# Altium integrated library ON Semi Schottky Diodes & Schottky Rectifiers.IntLib: 755 symbols (part 15 of 17)
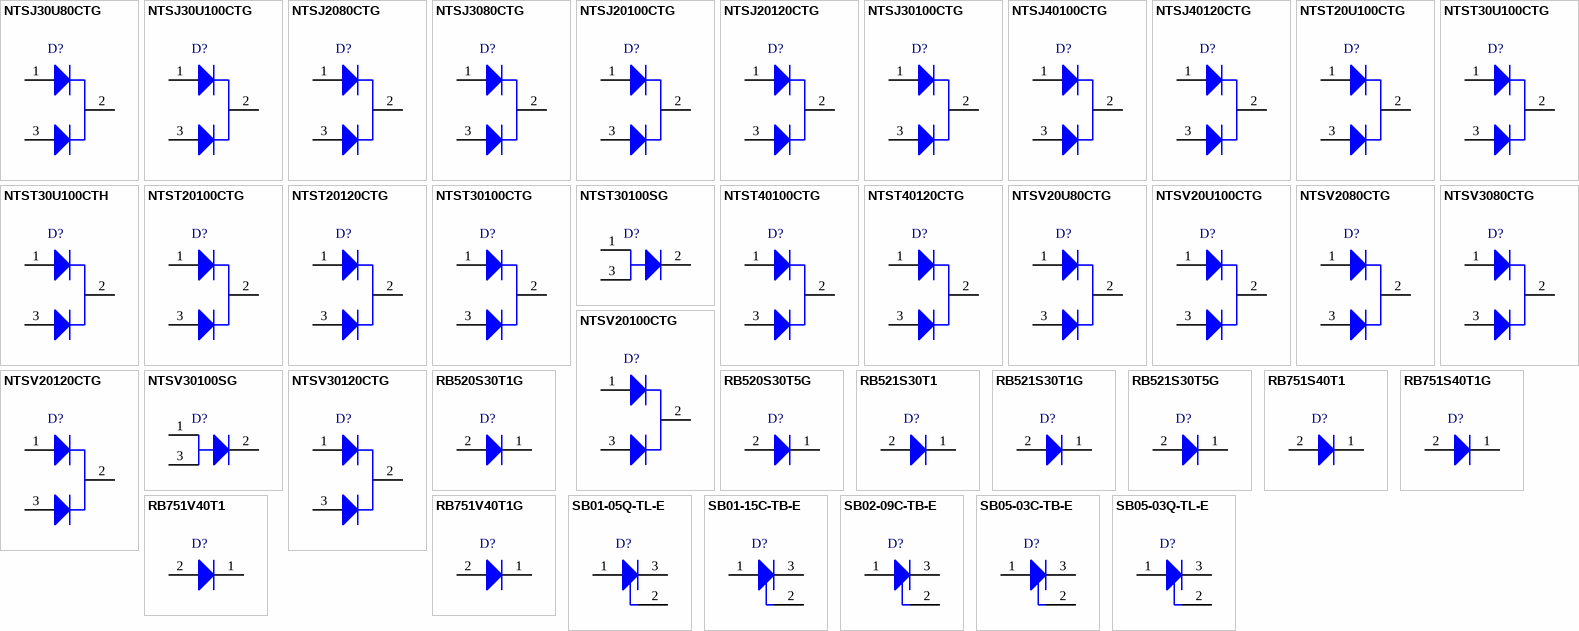
[diagram p33: symbols NTSJ30U80CTG to SB05-03Q-TL-E]

## RB520S30T1G
designator D?
Schottky Barrier Diode, 2-Pin SOD-523, Pb-Free, Tape and Reel; Manufacturer: On Semiconductor; PartNumber: RB520S30T1G; Configuration: Single; DatasheetVersion: Rev. 10; PackageVersion: Rev. E, 09/2010; PackageReference: SOD-523-2-502-01; PackageDescription: 2-Pin SOD, Body 1.2 x 0.8 mm; Supplier 1: Digi-Key; Supplier Part Number 1: RB520S30T1GOSTR-ND; Supplier 2: Digi-Key; Supplier Part Number 2: RB520S30T1GOSCT-ND; Supplier 3: Digi-Key; Supplier Part Number 3: RB520S30T1GOSDKR-ND; Supplier 4: Farnell; Supplier Part Number 4: 2317425; Supplier 5: Farnell; Supplier Part Number 5: 2369361; Supplier 6: Newark; Supplier Part Number 6: 42K2554; Supplier 7: Newark; Supplier Part Number 7: 10N9730; Supplier 8: Mouser; Supplier Part Number 8: 863-RB520S30T1G; Packing: Tape and Reel; RoHS: TRUE; Mounting Technology: Surface Mount; ComponentLink1Description: Manufacturer URL; ComponentLink1URL: http://www.onsemi.com/; ComponentLink2Description: Datasheet; ComponentLink2URL: http://www.onsemi.cn/pub_link/Collateral/RB520S30T1-D.PDF; ComponentLink3Description: Package Specification; ComponentLink3URL: http://www.onsemi.com/pub_link/Collateral/502-01.PDF
footprint ONSC-SOD-523-2-502-01_V (SOD, 2-Leads, Body 1.2x0.8mm)
pins: 1 K, 2 A

## RB520S30T5G
designator D?
Schottky Barrier Diode, 2-Pin SOD-523, Pb-Free, Tape and Reel; Manufacturer: On Semiconductor; PartNumber: RB520S30T5G; Configuration: Single; DatasheetVersion: Rev. 10; PackageVersion: Rev. E, 09/2010; PackageReference: SOD-523-2-502-01; PackageDescription: 2-Pin SOD, Body 1.2 x 0.8 mm; Supplier 1: Digi-Key; Supplier Part Number 1: RB520S30T5G-ND; Supplier 2: Newark; Supplier Part Number 2: 65T1558; Supplier 3: Mouser; Supplier Part Number 3: 863-RB520S30T5G; Packing: Tape and Reel; RoHS: TRUE; Mounting Technology: Surface Mount; ComponentLink1Description: Manufacturer URL; ComponentLink1URL: http://www.onsemi.com/; ComponentLink2Description: Datasheet; ComponentLink2URL: http://www.onsemi.cn/pub_link/Collateral/RB520S30T1-D.PDF; ComponentLink3Description: Package Specification; ComponentLink3URL: http://www.onsemi.com/pub_link/Collateral/502-01.PDF
footprint ONSC-SOD-523-2-502-01_V (SOD, 2-Leads, Body 1.2x0.8mm)
pins: 1 K, 2 A

## RB521S30T1
designator D?
Schottky Barrier Diode, 2-Pin SOD-523, Tape and Reel; Manufacturer: On Semiconductor; PartNumber: RB521S30T1; Configuration: Single; IFSM Max (A): 1; DatasheetVersion: Rev. 8; PackageVersion: Rev. E, 09/2010; PackageReference: SOD-523-2-502-01; PackageDescription: 2-Pin SOD, Body 1.2 x 0.8 mm; Supplier 1: Digi-Key; Supplier Part Number 1: RB521S30T1OSTR-ND; Supplier 2: Digi-Key; Supplier Part Number 2: RB521S30T1OSCT-ND; Packing: Tape and Reel; RoHS: FALSE; Mounting Technology: Surface Mount; ComponentLink1Description: Manufacturer URL; ComponentLink1URL: http://www.onsemi.com/; ComponentLink2Description: Datasheet; ComponentLink2URL: http://www.onsemi.cn/pub_link/Collateral/RB521S30T1-D.PDF; ComponentLink3Description: Package Specification; ComponentLink3URL: http://www.onsemi.com/pub_link/Collateral/502-01.PDF
footprint ONSC-SOD-523-2-502-01_V (SOD, 2-Leads, Body 1.2x0.8mm)
pins: 1 K, 2 A

## RB521S30T1G
designator D?
Schottky Barrier Diode, 2-Pin SOD-523, Pb-Free, Tape and Reel; Manufacturer: On Semiconductor; PartNumber: RB521S30T1G; Configuration: Single; IFSM Max (A): 1; DatasheetVersion: Rev. 8; PackageVersion: Rev. E, 09/2010; PackageReference: SOD-523-2-502-01; PackageDescription: 2-Pin SOD, Body 1.2 x 0.8 mm; Supplier 1: Digi-Key; Supplier Part Number 1: RB521S30T1GOSTR-ND; Supplier 2: Digi-Key; Supplier Part Number 2: RB521S30T1GOSCT-ND; Supplier 3: Digi-Key; Supplier Part Number 3: RB521S30T1GOSDKR-ND; Supplier 4: Farnell; Supplier Part Number 4: 2317433; Supplier 5: Farnell; Supplier Part Number 5: 1885825; Supplier 6: Newark; Supplier Part Number 6: 42K2555; Supplier 7: Newark; Supplier Part Number 7: 10N9731; Supplier 8: Mouser; Supplier Part Number 8: 863-RB521S30T1G; Packing: Tape and Reel; RoHS: TRUE; Mounting Technology: Surface Mount; ComponentLink1Description: Manufacturer URL; ComponentLink1URL: http://www.onsemi.com/; ComponentLink2Description: Datasheet; ComponentLink2URL: http://www.onsemi.cn/pub_link/Collateral/RB521S30T1-D.PDF; ComponentLink3Description: Package Specification; ComponentLink3URL: http://www.onsemi.com/pub_link/Collateral/502-01.PDF
footprint ONSC-SOD-523-2-502-01_V (SOD, 2-Leads, Body 1.2x0.8mm)
pins: 1 K, 2 A

## RB521S30T5G
designator D?
Schottky Barrier Diode, 2-Pin SOD-523, Pb-Free, Tape and Reel; Manufacturer: On Semiconductor; PartNumber: RB521S30T5G; Configuration: Single; IFSM Max (A): 1; DatasheetVersion: Rev. 8; PackageVersion: Rev. E, 09/2010; PackageReference: SOD-523-2-502-01; PackageDescription: 2-Pin SOD, Body 1.2 x 0.8 mm; Supplier 1: Digi-Key; Supplier Part Number 1: RB521S30T5G-ND; Supplier 2: Mouser; Supplier Part Number 2: 863-RB521S30T5G; Packing: Tape and Reel; RoHS: TRUE; Mounting Technology: Surface Mount; ComponentLink1Description: Manufacturer URL; ComponentLink1URL: http://www.onsemi.com/; ComponentLink2Description: Datasheet; ComponentLink2URL: http://www.onsemi.cn/pub_link/Collateral/RB521S30T1-D.PDF; ComponentLink3Description: Package Specification; ComponentLink3URL: http://www.onsemi.com/pub_link/Collateral/502-01.PDF
footprint ONSC-SOD-523-2-502-01_V (SOD, 2-Leads, Body 1.2x0.8mm)
pins: 1 K, 2 A

## RB751S40T1
designator D?
Schottky Barrier Diode, 2-Pin SOD-523, Tape and Reel; Manufacturer: On Semiconductor; PartNumber: RB751S40T1; Configuration: Single; IFSM Max (A): 0.5; DatasheetVersion: Rev. 4; PackageVersion: Rev. C, 03/2007; PackageReference: SOD-523-2-502-01_C; PackageDescription: 2-Pin SOD, Body 1.2 x 0.8 mm; Supplier 1: Digi-Key; Supplier Part Number 1: RB751S40T1OSTR-ND; Supplier 2: Digi-Key; Supplier Part Number 2: RB751S40T1OSCT-ND; Supplier 3: Mouser; Supplier Part Number 3: 863-RB751S40T1; Packing: Tape and Reel; RoHS: FALSE; Mounting Technology: Surface Mount; ComponentLink1Description: Manufacturer URL; ComponentLink1URL: http://www.onsemi.com/; ComponentLink2Description: Datasheet; ComponentLink2URL: http://www.onsemi.cn/pub_link/Collateral/RB751S40T1-D.PDF; ComponentLink3Description: Package Specification; ComponentLink3URL: http://www.onsemi.cn/pub_link/Collateral/ESD5B5.0ST1G.PDF
footprint ONSC-SOD-523-2-502-01_C_V (SOD, 2-Leads, Body 1.2x0.8mm)
pins: 1 K, 2 A

## RB751S40T1G
designator D?
Schottky Barrier Diode, 2-Pin SOD-523, Pb-Free, Tape and Reel; Manufacturer: On Semiconductor; PartNumber: RB751S40T1G; Configuration: Single; IFSM Max (A): 0.5; DatasheetVersion: Rev. 4; PackageVersion: Rev. C, 03/2007; PackageReference: SOD-523-2-502-01_C; PackageDescription: 2-Pin SOD, Body 1.2 x 0.8 mm; Supplier 1: Digi-Key; Supplier Part Number 1: RB751S40T1GOSTR-ND; Supplier 2: Digi-Key; Supplier Part Number 2: RB751S40T1GOSCT-ND; Supplier 3: Digi-Key; Supplier Part Number 3: RB751S40T1GOSDKR-ND; Supplier 4: Farnell; Supplier Part Number 4: 2317437; Supplier 5: Farnell; Supplier Part Number 5: 2317691; Supplier 6: Newark; Supplier Part Number 6: 42K2556; Supplier 7: Newark; Supplier Part Number 7: 10N9732; Supplier 8: Mouser; Supplier Part Number 8: 863-RB751S40T1G; Packing: Tape and Reel; RoHS: TRUE; Mounting Technology: Surface Mount; ComponentLink1Description: Manufacturer URL; ComponentLink1URL: http://www.onsemi.com/; ComponentLink2Description: Datasheet; ComponentLink2URL: http://www.onsemi.cn/pub_link/Collateral/RB751S40T1-D.PDF; ComponentLink3Description: Package Specification; ComponentLink3URL: http://www.onsemi.cn/pub_link/Collateral/ESD5B5.0ST1G.PDF
footprint ONSC-SOD-523-2-502-01_C_V (SOD, 2-Leads, Body 1.2x0.8mm)
pins: 1 K, 2 A

## RB751V40T1
designator D?
Schottky Barrier Diode, 2-Pin SOD-323, Tape and Reel; Manufacturer: On Semiconductor; PartNumber: RB751V40T1; Configuration: Single; IFSM Max (A): 0.5; DatasheetVersion: Rev. 4; PackageVersion: Rev. H, 03/2007; PackageReference: SOD-323-2-477-02; PackageDescription: 2-Pin SOD, Body 1.7 x 1.25 mm; Supplier 1: Digi-Key; Supplier Part Number 1: RB751V40T1OSCT-ND; Packing: Tape and Reel; RoHS: FALSE; Mounting Technology: Surface Mount; ComponentLink1Description: Manufacturer URL; ComponentLink1URL: http://www.onsemi.com/; ComponentLink2Description: Datasheet; ComponentLink2URL: http://www.onsemi.cn/pub_link/Collateral/RB751V40T1-D.PDF; ComponentLink3Description: Package Specification; ComponentLink3URL: http://www.onsemi.com/pub_link/Collateral/477-02.PDF.1
footprint ONSC-SOD-323-2-477-02_V (SOD, 2-Leads, Body 1.7x1.25mm)
pins: 1 K, 2 A

## RB751V40T1G
designator D?
Schottky Barrier Diode, 2-Pin SOD-323, Pb-Free, Tape and Reel; Manufacturer: On Semiconductor; PartNumber: RB751V40T1G; Configuration: Single; IFSM Max (A): 0.5; DatasheetVersion: Rev. 4; PackageVersion: Rev. H, 03/2007; PackageReference: SOD-323-2-477-02; PackageDescription: 2-Pin SOD, Body 1.7 x 1.25 mm; Supplier 1: Digi-Key; Supplier Part Number 1: RB751V40T1GOSTR-ND; Supplier 2: Digi-Key; Supplier Part Number 2: RB751V40T1GOSCT-ND; Supplier 3: Digi-Key; Supplier Part Number 3: RB751V40T1GOSDKR-ND; Supplier 4: Farnell; Supplier Part Number 4: 1459171RL; Supplier 5: Farnell; Supplier Part Number 5: 1459171; Supplier 6: Farnell; Supplier Part Number 6: 2317675; Supplier 7: Newark; Supplier Part Number 7: 83H7851; Supplier 8: Newark; Supplier Part Number 8: 85W2870; Supplier 9: Mouser; Supplier Part Number 9: 863-RB751V40T1G; Packing: Tape and Reel; RoHS: TRUE; Mounting Technology: Surface Mount; ComponentLink1Description: Manufacturer URL; ComponentLink1URL: http://www.onsemi.com/; ComponentLink2Description: Datasheet; ComponentLink2URL: http://www.onsemi.cn/pub_link/Collateral/RB751V40T1-D.PDF; ComponentLink3Description: Package Specification; ComponentLink3URL: http://www.onsemi.com/pub_link/Collateral/477-02.PDF.1
footprint ONSC-SOD-323-2-477-02_V (SOD, 2-Leads, Body 1.7x1.25mm)
pins: 1 K, 2 A

## SB01-05Q-TL-E
designator D?
Schottky Barrier Diode, 50 V, 0.1 A, Low IR, Single, 3-Pin MCP, Pb-Free, Tape and Reel; Manufacturer: On Semiconductor; PartNumber: SB01-05Q-TL-E; IFSM Max (A): 2; trr Max (ns): 10; PackageReference: MCP-3; PackageDescription: 3-Pin Small Outline Transistor, Body 2 x 1.25 mm, Pitch 0.65 mm; Supplier 1: Digi-Key; Supplier Part Number 1: SB01-05Q-TL-E-ND; Supplier 2: Mouser; Supplier Part Number 2: 863-SB01-05Q-TL-E; Configuration: Single; Packing: Tape and Reel; RoHS: TRUE; Mounting Technology: Surface Mount; ComponentLink1Description: Manufacturer URL; ComponentLink1URL: http://www.onsemi.com/; ComponentLink2Description: Datasheet; ComponentLink2URL: http://www.onsemi.cn/pub/Collateral/SB01-05Q-D.PDF; ComponentLink3Description: Package Specification; ComponentLink3URL: http://www.onsemi.com/pub_link/Collateral/3LP01M-D.PDF
footprint ONSC-MCP-3_V (SOT23, 3-Leads, Body 2.2x1.35mm, Pitch 0.65mm)
pins: 1 A, 2 NC, 3 K

## SB01-15C-TB-E
designator D?
Schottky Barrier Diode, 150 V, 0.1 A, Low IR, Single, 3-Pin CP, Pb-Free, Tape and Reel; Manufacturer: On Semiconductor; PartNumber: SB01-15C-TB-E; IFSM Max (A): 5; trr Max (ns): 10; PackageReference: CP-3-318AN_A; PackageDescription: 3-Pin Small Outline Transistor, Body 2.9 x 1.5 mm, Pitch 0.95 mm; Supplier 1: Digi-Key; Supplier Part Number 1: SB01-15C-TB-E-ND; Supplier 2: Mouser; Supplier Part Number 2: 863-SB01-15C-TB-E; Configuration: Single; Packing: Tape and Reel; RoHS: TRUE; Mounting Technology: Surface Mount; ComponentLink1Description: Manufacturer URL; ComponentLink1URL: http://www.onsemi.com/; ComponentLink2Description: Datasheet; ComponentLink2URL: http://www.onsemi.cn/pub_link/Collateral/SB01-15C-D.PDF; ComponentLink3Description: Package Specification; ComponentLink3URL: http://www.onsemi.com/pub_link/Collateral/EN6619-D.PDF
footprint ONSC-CP-3-318AN_A_V (SOT23, 3-Leads, Body 2.9x1.5mm, Pitch 0.95mm)
pins: 1 A, 2 NC, 3 K

## SB02-09C-TB-E
designator D?
Schottky Barrier Diode, 90 V, 0.2 A, Low IR, Single, 3-Pin CP, Pb-Free, Tape and Reel; Manufacturer: On Semiconductor; PartNumber: SB02-09C-TB-E; IFSM Max (A): 5; trr Max (ns): 10; PackageReference: CP-3-318AN_A; PackageDescription: 3-Pin Small Outline Transistor, Body 2.9 x 1.5 mm, Pitch 0.95 mm; Supplier 1: Digi-Key; Supplier Part Number 1: SB02-09C-TB-E-ND; Supplier 2: Mouser; Supplier Part Number 2: 863-SB02-09C-TB-E; Configuration: Single; Packing: Tape and Reel; RoHS: TRUE; Mounting Technology: Surface Mount; ComponentLink1Description: Manufacturer URL; ComponentLink1URL: http://www.onsemi.com/; ComponentLink2Description: Datasheet; ComponentLink2URL: http://www.onsemi.cn/pub_link/Collateral/SB02-09C-D.PDF; ComponentLink3Description: Package Specification; ComponentLink3URL: http://www.onsemi.com/pub_link/Collateral/EN6619-D.PDF
footprint ONSC-CP-3-318AN_A_V (SOT23, 3-Leads, Body 2.9x1.5mm, Pitch 0.95mm)
pins: 1 A, 2 NC, 3 K

## SB05-03C-TB-E
designator D?
Schottky Barrier Diode, 30 V, 0.5 A, Low IR, Single, 3-Pin CP, Pb-Free, Tape and Reel; Manufacturer: On Semiconductor; PartNumber: SB05-03C-TB-E; IFSM Max (A): 5; trr Max (ns): 10; PackageReference: CP-3-318AN_A; PackageDescription: 3-Pin Small Outline Transistor, Body 2.9 x 1.5 mm, Pitch 0.95 mm; Supplier 1: Digi-Key; Supplier Part Number 1: SB05-03C-TB-E-ND; Supplier 2: Mouser; Supplier Part Number 2: 863-SB05-03C-TB-E; Configuration: Single; Packing: Tape and Reel; RoHS: TRUE; Mounting Technology: Surface Mount; ComponentLink1Description: Manufacturer URL; ComponentLink1URL: http://www.onsemi.com/; ComponentLink2Description: Datasheet; ComponentLink2URL: http://www.onsemi.cn/pub_link/Collateral/SB05-03C-D.PDF; ComponentLink3Description: Package Specification; ComponentLink3URL: http://www.onsemi.com/pub_link/Collateral/EN6619-D.PDF
footprint ONSC-CP-3-318AN_A_V (SOT23, 3-Leads, Body 2.9x1.5mm, Pitch 0.95mm)
pins: 1 A, 2 NC, 3 K

## SB05-03Q-TL-E
designator D?
Schottky Barrier Diode, 30 V, 0.5 A, Low IR, Single, 3-Pin MCP, Pb-Free, Tape and Reel; Manufacturer: On Semiconductor; PartNumber: SB05-03Q-TL-E; IFSM Max (A): 3; trr Max (ns): 10; PackageReference: MCP-3; PackageDescription: 3-Pin Small Outline Transistor, Body 2 x 1.25 mm, Pitch 0.65 mm; Supplier 1: Digi-Key; Supplier Part Number 1: SB05-03Q-TL-E-ND; Supplier 2: Mouser; Supplier Part Number 2: 863-SB05-03Q-TL-E; Configuration: Single; Packing: Tape and Reel; RoHS: TRUE; Mounting Technology: Surface Mount; ComponentLink1Description: Manufacturer URL; ComponentLink1URL: http://www.onsemi.com/; ComponentLink2Description: Datasheet; ComponentLink2URL: http://www.onsemi.cn/pub_link/Collateral/SB05-03Q-D.PDF; ComponentLink3Description: Package Specification; ComponentLink3URL: http://www.onsemi.com/pub_link/Collateral/3LP01M-D.PDF
footprint ONSC-MCP-3_V (SOT23, 3-Leads, Body 2.2x1.35mm, Pitch 0.65mm)
pins: 1 A, 2 NC, 3 K

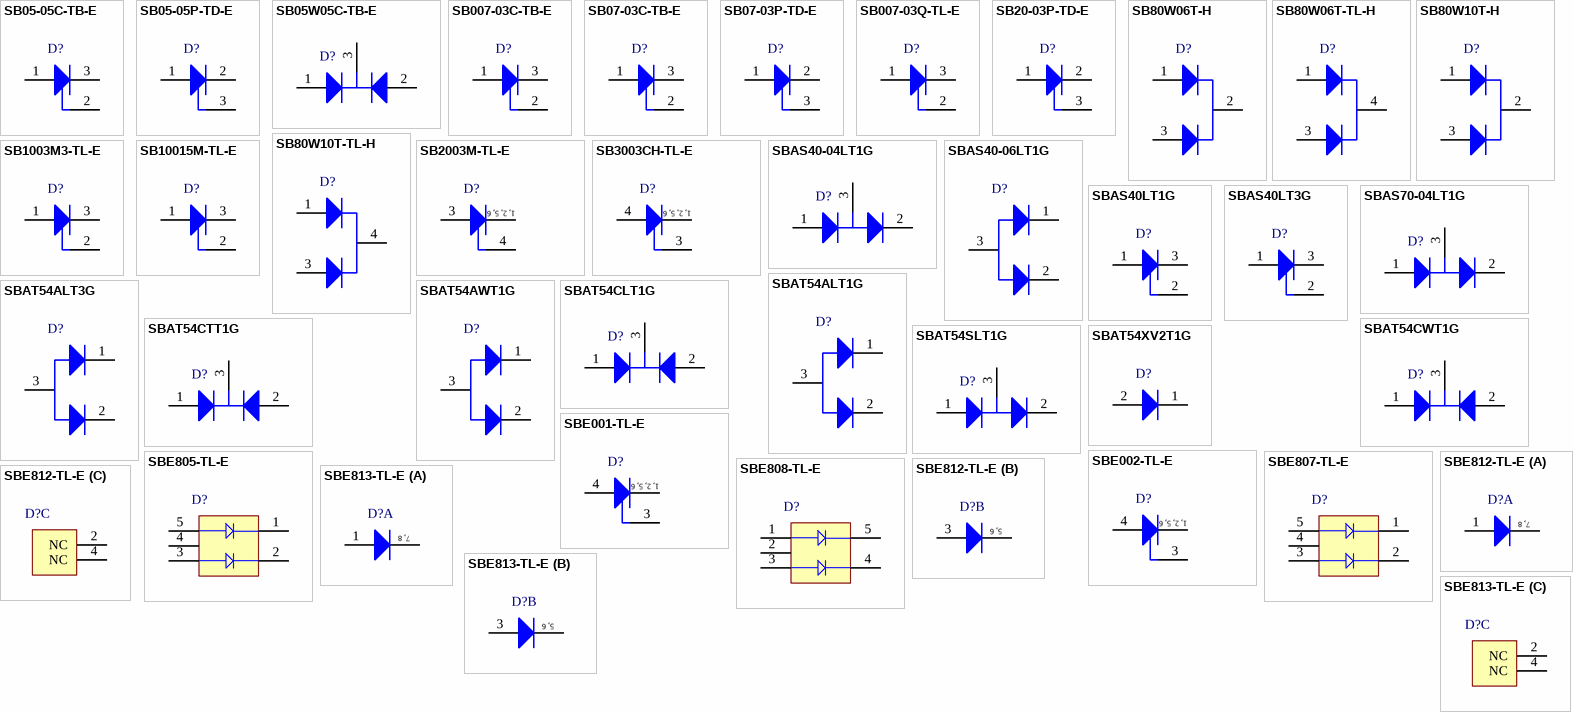
[diagram p17: symbols SB05-05C-TB-E to SBE813-TL-E]

## SB05-05C-TB-E
designator D?
Schottky Barrier Diode, 50 V, 0.5 A, Low IR, Single, 3-Pin CP, Pb-Free, Tape and Reel; Manufacturer: On Semiconductor; PartNumber: SB05-05C-TB-E; IFSM Max (A): 5; trr Max (ns): 10; PackageReference: CP-3-318AN_A; PackageDescription: 3-Pin Small Outline Transistor, Body 2.9 x 1.5 mm, Pitch 0.95 mm; Supplier 1: Digi-Key; Supplier Part Number 1: SB05-05C-TB-E-ND; Supplier 2: Mouser; Supplier Part Number 2: 863-SB05-05C-TB-E; Configuration: Single; Packing: Tape and Reel; RoHS: TRUE; Mounting Technology: Surface Mount; ComponentLink1Description: Manufacturer URL; ComponentLink1URL: http://www.onsemi.com/; ComponentLink2Description: Datasheet; ComponentLink2URL: http://www.onsemi.cn/pub_link/Collateral/SB05-05C-D.PDF; ComponentLink3Description: Package Specification; ComponentLink3URL: http://www.onsemi.com/pub_link/Collateral/EN6619-D.PDF
footprint ONSC-CP-3-318AN_A_V (SOT23, 3-Leads, Body 2.9x1.5mm, Pitch 0.95mm)
pins: 1 A, 2 NC, 3 K

## SB05-05P-TD-E
designator D?
Schottky Barrier Diode, 50 V, 0.5 A, Low IR, Single, 3-Pin SOT-89, Pb-Free, Tape and Reel; Manufacturer: On Semiconductor; PartNumber: SB05-05P-TD-E; IFSM Max (A): 5; trr Max (ns): 10; DatasheetVersion: Rev. 0; PackageVersion: Rev. O, 04/2012; PackageReference: SOT-89_PCP-1-3-419AU; PackageDescription: 3-Pin Small Outline Transistor, Body 4.5 x 2.5 mm, Pitch 1.5 mm; Supplier 1: Digi-Key; Supplier Part Number 1: SB05-05P-TD-E-ND; Supplier 2: Mouser; Supplier Part Number 2: 863-SB05-05P-TD-E; Configuration: Single; Packing: Tape and Reel; RoHS: TRUE; Mounting Technology: Surface Mount; ComponentLink1Description: Manufacturer URL; ComponentLink1URL: http://www.onsemi.com/; ComponentLink2Description: Datasheet; ComponentLink2URL: http://www.onsemi.cn/pub_link/Collateral/EN2999-D.PDF; ComponentLink3Description: Package Specification; ComponentLink3URL: http://www.onsemi.com/pub_link/Collateral/ENA1087-D.PDF
footprint ONSC-SOT-89_PCP-1-3-419AU_V (SOT89, 3-Leads, Body 4.5x2.5mm, Pitch 1.5mm)
pins: 1 A, 2 K, 3 NC

## SB05W05C-TB-E
designator D?
Schottky Barrier Diodes, 50 V, 0.5 A, Low IR, Monolithic Dual Common Cathode, 3-Pin CP, Pb-Free, Tape and Reel; Manufacturer: On Semiconductor; PartNumber: SB05W05C-TB-E; IFSM Max (A): 5; trr Max (ns): 10; PackageReference: CP-3-318AN_A; PackageDescription: 3-Pin Small Outline Transistor, Body 2.9 x 1.5 mm, Pitch 0.95 mm; Supplier 1: Digi-Key; Supplier Part Number 1: SB05W05C-TB-E-ND; Supplier 2: Newark; Supplier Part Number 2: 65T1615; Supplier 3: Mouser; Supplier Part Number 3: 863-SB05W05C-TB-E; Configuration: Common Cathode; Packing: Tape and Reel; RoHS: TRUE; Mounting Technology: Surface Mount; ComponentLink1Description: Manufacturer URL; ComponentLink1URL: http://www.onsemi.com/; ComponentLink2Description: Datasheet; ComponentLink2URL: http://www.onsemi.cn/pub_link/Collateral/SB05W05C-D.PDF; ComponentLink3Description: Package Specification; ComponentLink3URL: http://www.onsemi.com/pub_link/Collateral/EN6619-D.PDF
footprint ONSC-CP-3-318AN_A_V (SOT23, 3-Leads, Body 2.9x1.5mm, Pitch 0.95mm)
pins: 1 A1, 2 A2, 3 K

## SB007-03C-TB-E
designator D?
Schottky Barrier Diode, 30 V, 70 mA, Low IR, Single, 3-Pin CP, Pb-Free, Tape and Reel; Manufacturer: On Semiconductor; PartNumber: SB007-03C-TB-E; IFSM Max (A): 2; trr Max (ns): 10; PackageReference: CP-3-318AN_A; PackageDescription: 3-Pin Small Outline Transistor, Body 2.9 x 1.5 mm, Pitch 0.95 mm; Supplier 1: Digi-Key; Supplier Part Number 1: SB007-03C-TB-E-ND; Supplier 2: Mouser; Supplier Part Number 2: 863-SB007-03C-TB-E; Configuration: Single; Packing: Tape and Reel; RoHS: TRUE; Mounting Technology: Surface Mount; ComponentLink1Description: Manufacturer URL; ComponentLink1URL: http://www.onsemi.com/; ComponentLink2Description: Datasheet; ComponentLink2URL: http://www.onsemi.cn/pub_link/Collateral/SB007-03C-D.PDF; ComponentLink3Description: Package Specification; ComponentLink3URL: http://www.onsemi.com/pub_link/Collateral/EN6619-D.PDF
footprint ONSC-CP-3-318AN_A_V (SOT23, 3-Leads, Body 2.9x1.5mm, Pitch 0.95mm)
pins: 1 A, 2 NC, 3 K

## SB07-03C-TB-E
designator D?
Schottky Barrier Diode, 30 V, 0.7 A, Low IR, Single, 3-Pin CP, Pb-Free, Tape and Reel; Manufacturer: On Semiconductor; PartNumber: SB07-03C-TB-E; IFSM Max (A): 5; trr Max (ns): 10; DatasheetVersion: Rev. 1; PackageReference: CP-3-318AN_A; PackageDescription: 3-Pin Small Outline Transistor, Body 2.9 x 1.5 mm, Pitch 0.95 mm; Supplier 1: Digi-Key; Supplier Part Number 1: SB07-03C-TB-E-ND; Supplier 2: Mouser; Supplier Part Number 2: 863-SB07-03C-TB-E; Configuration: Single; Packing: Tape and Reel; RoHS: TRUE; Mounting Technology: Surface Mount; ComponentLink1Description: Manufacturer URL; ComponentLink1URL: http://www.onsemi.com/; ComponentLink2Description: Datasheet; ComponentLink2URL: http://www.onsemi.cn/pub_link/Collateral/EN2997-D.PDF; ComponentLink3Description: Package Specification; ComponentLink3URL: http://www.onsemi.com/pub_link/Collateral/EN6619-D.PDF
footprint ONSC-CP-3-318AN_A_V (SOT23, 3-Leads, Body 2.9x1.5mm, Pitch 0.95mm)
pins: 1 A, 2 NC, 3 K

## SB07-03P-TD-E
designator D?
Schottky Barrier Diode, 30 V, 0.7 A, Low IR, Single, 3-Pin SOT-89, Pb-Free, Tape and Reel; Manufacturer: On Semiconductor; PartNumber: SB07-03P-TD-E; IFSM Max (A): 5; trr Max (ns): 10; DatasheetVersion: Rev. 0; PackageVersion: Rev. O, 04/2012; PackageReference: SOT-89_PCP-1-3-419AU; PackageDescription: 3-Pin Small Outline Transistor, Body 4.5 x 2.5 mm, Pitch 1.5 mm; Supplier 1: Digi-Key; Supplier Part Number 1: SB07-03P-TD-E-ND; Supplier 2: Mouser; Supplier Part Number 2: 863-SB07-03P-TD-E; Configuration: Single; Packing: Tape and Reel; RoHS: TRUE; Mounting Technology: Surface Mount; ComponentLink1Description: Manufacturer URL; ComponentLink1URL: http://www.onsemi.com/; ComponentLink2Description: Datasheet; ComponentLink2URL: http://www.onsemi.cn/pub_link/Collateral/EN2981-D.PDF; ComponentLink3Description: Package Specification; ComponentLink3URL: http://www.onsemi.com/pub_link/Collateral/ENA1087-D.PDF
footprint ONSC-SOT-89_PCP-1-3-419AU_V (SOT89, 3-Leads, Body 4.5x2.5mm, Pitch 1.5mm)
pins: 1 A, 2 K, 3 NC

## SB007-03Q-TL-E
designator D?
Schottky Barrier Diode, 30 V, 70 mA, Low IR, Single, 3-Pin MCP, Pb-Free, Tape and Reel; Manufacturer: On Semiconductor; PartNumber: SB007-03Q-TL-E; IFSM Max (A): 2; trr Max (ns): 10; PackageReference: MCP-3; PackageDescription: 3-Pin Small Outline Transistor, Body 2 x 1.25 mm, Pitch 0.65 mm; Supplier 1: Digi-Key; Supplier Part Number 1: SB007-03Q-TL-E-ND; Supplier 2: Mouser; Supplier Part Number 2: 863-SB007-03Q-TL-E; Configuration: Single; Packing: Tape and Reel; RoHS: TRUE; Mounting Technology: Surface Mount; ComponentLink1Description: Manufacturer URL; ComponentLink1URL: http://www.onsemi.com/; ComponentLink2Description: Datasheet; ComponentLink2URL: http://www.onsemi.cn/pub_link/Collateral/SB007-03Q-D.PDF; ComponentLink3Description: Package Specification; ComponentLink3URL: http://www.onsemi.com/pub_link/Collateral/3LP01M-D.PDF
footprint ONSC-MCP-3_V (SOT23, 3-Leads, Body 2.2x1.35mm, Pitch 0.65mm)
pins: 1 A, 2 NC, 3 K

## SB20-03P-TD-E
designator D?
Schottky Barrier Diode, 30 V, 2 A, Low IR, Single, 3-Pin SOT-89, Pb-Free, Tape and Reel; Manufacturer: On Semiconductor; PartNumber: SB20-03P-TD-E; trr Max (ns): 20; DatasheetVersion: Rev. 0; PackageVersion: Rev. O, 04/2012; PackageReference: SOT-89_PCP-1-3-419AU; PackageDescription: 3-Pin Small Outline Transistor, Body 4.5 x 2.5 mm, Pitch 1.5 mm; Supplier 1: Digi-Key; Supplier Part Number 1: SB20-03P-TD-E-ND; Supplier 2: Mouser; Supplier Part Number 2: 863-SB20-03P-TD-E; Configuration: Single; Packing: Tape and Reel; RoHS: TRUE; Mounting Technology: Surface Mount; ComponentLink1Description: Manufacturer URL; ComponentLink1URL: http://www.onsemi.com/; ComponentLink2Description: Datasheet; ComponentLink2URL: http://www.onsemi.cn/pub_link/Collateral/EN2985-D.PDF; ComponentLink3Description: Package Specification; ComponentLink3URL: http://www.onsemi.com/pub_link/Collateral/ENA1087-D.PDF
footprint ONSC-SOT-89_PCP-1-3-419AU_V (SOT89, 3-Leads, Body 4.5x2.5mm, Pitch 1.5mm)
pins: 1 A, 2 K, 3 NC

## SB80W06T-H
designator D?
Schottky Barrier Diodes, 60 V, 8 A, Low IR, Monolithic Dual Common Cathode, 3-Pin IPAK, Pb-Free, Bulk Bag; Manufacturer: On Semiconductor; PartNumber: SB80W06T-H; IFSM Max (A): 40; PackageVersion: Rev. O, 01/2012; PackageReference: IPAK-3-369AJ; PackageDescription: 3-Pin Flange Mount, Vertical Straight Lead, Body 6.5 x 5.5 mm, Pitch 2.3 mm; Supplier 1: Digi-Key; Supplier Part Number 1: SB80W06T-H-ND; Supplier 2: Mouser; Supplier Part Number 2: 863-SB80W06T-H; Configuration: Common Cathode; Packing: Bulk Bag; RoHS: TRUE; Mounting Technology: Through Hole; ComponentLink1Description: Manufacturer URL; ComponentLink1URL: http://www.onsemi.com/; ComponentLink2Description: Datasheet; ComponentLink2URL: http://www.onsemi.cn/pub_link/Collateral/ENA1505-D.PDF; ComponentLink3Description: Package Specification; ComponentLink3URL: http://www.onsemi.cn/pub_link/Collateral/369AJ.PDF
footprint ONSC-IPAK-3-369AJ (FM, 3-Leads, Body 6.7x2.5mm, Pitch 2.3mm)
pins: 1 A1, 2 K, 3 A2

## SB80W06T-TL-H
designator D?
Schottky Barrier Diodes, 60 V, 8 A, Low IR, Monolithic Dual Common Cathode, 3-Pin TP-FA, Pb-Free, Tape and Reel; Manufacturer: On Semiconductor; PartNumber: SB80W06T-TL-H; IFSM Max (A): 40; PackageVersion: Rev. O, 01/2012; PackageReference: TP-FA-3-369AH; PackageDescription: 3-Pin Flange Mount, Body 6.5 x 5.5 mm, Pitch 2.3 mm; Supplier 1: Digi-Key; Supplier Part Number 1: SB80W06T-TL-H-ND; Supplier 2: Mouser; Supplier Part Number 2: 863-SB80W06T-TL-H; Configuration: Common Cathode; Packing: Tape and Reel; RoHS: TRUE; Mounting Technology: Surface Mount; ComponentLink1Description: Manufacturer URL; ComponentLink1URL: http://www.onsemi.com/; ComponentLink2Description: Datasheet; ComponentLink2URL: http://www.onsemi.cn/pub_link/Collateral/ENA1505-D.PDF; ComponentLink3Description: Package Specification; ComponentLink3URL: http://www.onsemi.com/pub_link/Collateral/369AH.PDF
footprint ONSC-TP-FA-3-369AH_V (DPAK, 3-Leads, Body 6.5x5.5mm, Pitch 2.3mm)
pins: 1 A1, 3 A2, 4 K

## SB80W10T-H
designator D?
Schottky Barrier Diodes, 100 V, 8 A, Low IR, Monolithic Dual Common Cathode, 3-Pin IPAK, Pb-Free, Bulk Bag; Manufacturer: On Semiconductor; PartNumber: SB80W10T-H; IFSM Max (A): 40; PackageVersion: Rev. O, 01/2012; PackageReference: IPAK-3-369AJ; PackageDescription: 3-Pin Flange Mount, Vertical Straight Lead, Body 6.5 x 5.5 mm, Pitch 2.3 mm; Supplier 1: Digi-Key; Supplier Part Number 1: SB80W10T-H-ND; Supplier 2: Mouser; Supplier Part Number 2: 863-SB80W10T-H; Configuration: Dual; Packing: Bulk Bag; RoHS: TRUE; Mounting Technology: Through Hole; ComponentLink1Description: Manufacturer URL; ComponentLink1URL: http://www.onsemi.com/; ComponentLink2Description: Datasheet; ComponentLink2URL: http://www.onsemi.cn/pub_link/Collateral/ENA1817-D.PDF; ComponentLink3Description: Package Specification; ComponentLink3URL: http://www.onsemi.cn/pub_link/Collateral/369AJ.PDF
footprint ONSC-IPAK-3-369AJ (FM, 3-Leads, Body 6.7x2.5mm, Pitch 2.3mm)
pins: 1 A1, 2 K, 3 A2

## SB80W10T-TL-H
designator D?
Schottky Barrier Diodes, 100 V, 8 A, Low IR, Monolithic Dual Common Cathode, 3-Pin TP-FA, Pb-Free, Tape and Reel; Manufacturer: On Semiconductor; PartNumber: SB80W10T-TL-H; IFSM Max (A): 40; PackageVersion: Rev. O, 01/2012; PackageReference: TP-FA-3-369AH; PackageDescription: 3-Pin Flange Mount, Body 6.5 x 5.5 mm, Pitch 2.3 mm; Supplier 1: Digi-Key; Supplier Part Number 1: SB80W10T-TL-H-ND; Supplier 2: Mouser; Supplier Part Number 2: 863-SB80W10T-TL-H; Configuration: Dual; Packing: Tape and Reel; RoHS: TRUE; Mounting Technology: Surface Mount; ComponentLink1Description: Manufacturer URL; ComponentLink1URL: http://www.onsemi.com/; ComponentLink2Description: Datasheet; ComponentLink2URL: http://www.onsemi.cn/pub_link/Collateral/ENA1817-D.PDF; ComponentLink3Description: Package Specification; ComponentLink3URL: http://www.onsemi.com/pub_link/Collateral/369AH.PDF
footprint ONSC-TP-FA-3-369AH_V (DPAK, 3-Leads, Body 6.5x5.5mm, Pitch 2.3mm)
pins: 1 A1, 3 A2, 4 K

## SB1003M3-TL-E
designator D?
Schottky Barrier Diode, 30 V, 1 A, Low IR, Single, 3-Pin MCPH, Pb-Free, Tape and Reel; Manufacturer: On Semiconductor; PartNumber: SB1003M3-TL-E; IFSM Max (A): 10; PackageReference: MCPH-3; PackageDescription: 3-Pin Small Outline Transistor, Body 2 x 1.6 mm, Pitch 0.65 mm; Supplier 1: Digi-Key; Supplier Part Number 1: SB1003M3-TL-E-ND; Supplier 2: Mouser; Supplier Part Number 2: 863-SB1003M3-TL-E; Configuration: Single; Packing: Tape and Reel; RoHS: TRUE; trr Max (ns): 10; Mounting Technology: Surface Mount; ComponentLink1Description: Manufacturer URL; ComponentLink1URL: http://www.onsemi.com/; ComponentLink2Description: Datasheet; ComponentLink2URL: http://www.onsemi.cn/pub_link/Collateral/EN8375-D.PDF; ComponentLink3Description: Package Specification; ComponentLink3URL: http://www.onsemi.com/pub_link/Collateral/EN7354-D.PDF
footprint ONSC-MCPH-3_V (SOT23, 3-Leads, Body 2x1.6mm, Pitch 0.65mm)
pins: 1 A, 2 NC, 3 K

## SB2003M-TL-E
designator D?
Schottky Barrier Diode, 30 V, 2 A, Low IR, Single, 6-Pin MCPH, Pb-Free, Tape and Reel; Manufacturer: On Semiconductor; PartNumber: SB2003M-TL-E; IFSM Max (A): 10; trr Max (ns): 20; PackageReference: MCPH-6; PackageDescription: 6-Pin Small Outline Transistor, Body 2 x 1.6 mm, Pitch 0.65 mm; Supplier 1: Digi-Key; Supplier Part Number 1: SB2003M-TL-E-ND; Supplier 2: Mouser; Supplier Part Number 2: 863-SB2003M-TL-E; Configuration: Single; Packing: Tape and Reel; RoHS: TRUE; Mounting Technology: Surface Mount; ComponentLink1Description: Manufacturer URL; ComponentLink1URL: http://www.onsemi.com/; ComponentLink2Description: Datasheet; ComponentLink2URL: http://www.onsemi.cn/pub_link/Collateral/EN8371-D.PDF; ComponentLink3Description: Package Specification; ComponentLink3URL: http://www.onsemi.com/pub_link/Collateral/ENA1601-D.PDF
footprint ONSC-MCPH-6_V (SOT23, 6-Leads, Body 2x1.6mm, Pitch 0.65mm)
pins: 1 K, 2 K, 3 A, 4 NC, 5 K, 6 K
text: 1, 2, 5, 6

## SB3003CH-TL-E
designator D?
Schottky Barrier Diode, 30 V, 3 A, Low IR, Single, 6-Pin CPH, Pb-Free, Tape and Reel; Manufacturer: On Semiconductor; PartNumber: SB3003CH-TL-E; IFSM Max (A): 20; PackageReference: CPH-6; PackageDescription: 6-Pin Small Outline Transistor, Body 2.9 x 1.6 mm, Pitch 0.95 mm; Supplier 1: Digi-Key; Supplier Part Number 1: SB3003CH-TL-E-ND; Supplier 2: Newark; Supplier Part Number 2: 07W7377; Supplier 3: Mouser; Supplier Part Number 3: 863-SB3003CH-TL-E; Configuration: Single; Packing: Tape and Reel; RoHS: TRUE; trr Max (ns): 20; Mounting Technology: Surface Mount; ComponentLink1Description: Manufacturer URL; ComponentLink1URL: http://www.onsemi.com/; ComponentLink2Description: Datasheet; ComponentLink2URL: http://www.onsemi.cn/pub_link/Collateral/EN8964-D.PDF; ComponentLink3Description: Package Specification; ComponentLink3URL: http://www.onsemi.com/pub_link/Collateral/CPH6001A-D.PDF
footprint ONSC-CPH-6_V (SOT23, 6-Leads, Body 2.9x1.6mm, Pitch 0.95mm)
pins: 1 K, 2 K, 3 NC, 4 A, 5 K, 6 K
text: 1, 2, 5, 6

## SB10015M-TL-E
designator D?
Schottky Barrier Diode, 15 V, 1 A, Low IR, Single, 3-Pin MCPH, Pb-Free, Tape and Reel; Manufacturer: On Semiconductor; PartNumber: SB10015M-TL-E; IFSM Max (A): 10; PackageReference: MCPH-3; PackageDescription: 3-Pin Small Outline Transistor, Body 2 x 1.6 mm, Pitch 0.65 mm; Supplier 1: Digi-Key; Supplier Part Number 1: SB10015M-TL-E-ND; Supplier 2: Newark; Supplier Part Number 2: 07W7374; Supplier 3: Mouser; Supplier Part Number 3: 863-SB10015M-TL-E; Configuration: Single; Packing: Tape and Reel; RoHS: TRUE; trr Max (ns): 10; Mounting Technology: Surface Mount; ComponentLink1Description: Manufacturer URL; ComponentLink1URL: http://www.onsemi.com/; ComponentLink2Description: Datasheet; ComponentLink2URL: http://www.onsemi.cn/pub_link/Collateral/ENA0444-D.PDF; ComponentLink3Description: Package Specification; ComponentLink3URL: http://www.onsemi.com/pub_link/Collateral/EN7354-D.PDF
footprint ONSC-MCPH-3_V (SOT23, 3-Leads, Body 2x1.6mm, Pitch 0.65mm)
pins: 1 A, 2 NC, 3 K

## SBAS40-04LT1G
designator D?
Dual Series Schottky Barrier Diodes, 3-Pin SOT-23, Pb-Free, Tape and Reel; Manufacturer: On Semiconductor; PartNumber: SBAS40-04LT1G; IFSM Max (A): 0.2; DatasheetVersion: Rev. 11; PackageVersion: Rev. AP, 11/2009; PackageReference: SOT-23-3-318-08; PackageDescription: 3-Pin Small Outline Transistor, Body 2.92 x 1.3 mm, Pitch 0.95 mm; Supplier 1: Digi-Key; Supplier Part Number 1: SBAS40-04LT1G-ND; Supplier 2: Mouser; Supplier Part Number 2: 863-SBAS40-04LT1G; Configuration: Dual; Packing: Tape and Reel; RoHS: TRUE; Mounting Technology: Surface Mount; ComponentLink1Description: Manufacturer URL; ComponentLink1URL: http://www.onsemi.com/; ComponentLink2Description: Datasheet; ComponentLink2URL: http://www.onsemi.cn/pub_link/Collateral/BAS40-04LT1-D.PDF; ComponentLink3Description: Package Specification; ComponentLink3URL: http://www.onsemi.cn/pub_link/Collateral/318-08.PDF
footprint ONSC-SOT-23-3-318-08_V (SOT23, 3-Leads, Body 2.92x1.3mm, Pitch 0.95mm)
pins: 1 A, 2 K, 3 K/A

## SBAS40-06LT1G
designator D?
Common Anode Schottky Barrier Diodes, 3-Pin SOT-23, Pb-Free, Tape and Reel; Manufacturer: On Semiconductor; PartNumber: SBAS40-06LT1G; DatasheetVersion: Rev. 8; PackageVersion: Rev. AP, 11/2009; PackageReference: SOT-23-3-318-08; PackageDescription: 3-Pin Small Outline Transistor, Body 2.92 x 1.3 mm, Pitch 0.95 mm; Supplier 1: Digi-Key; Supplier Part Number 1: SBAS40-06LT1G-ND; Supplier 2: Mouser; Supplier Part Number 2: 863-SBAS40-06LT1G; Configuration: Common Anode; Packing: Tape and Reel; RoHS: TRUE; Mounting Technology: Surface Mount; ComponentLink1Description: Manufacturer URL; ComponentLink1URL: http://www.onsemi.com/; ComponentLink2Description: Datasheet; ComponentLink2URL: http://www.onsemi.cn/pub_link/Collateral/BAS40-06LT1-D.PDF; ComponentLink3Description: Package Specification; ComponentLink3URL: http://www.onsemi.cn/pub_link/Collateral/318-08.PDF
footprint ONSC-SOT-23-3-318-08_V (SOT23, 3-Leads, Body 2.92x1.3mm, Pitch 0.95mm)
pins: 1 K1, 2 K2, 3 A

## SBAS40LT1G
designator D?
Schottky Barrier Diode, 3-Pin SOT-23, Pb-Free, Tape and Reel; Manufacturer: On Semiconductor; PartNumber: SBAS40LT1G; Configuration: Single; DatasheetVersion: Rev. 10; PackageVersion: Rev. AP, 11/2009; PackageReference: SOT-23-3-318-08; PackageDescription: 3-Pin Small Outline Transistor, Body 2.92 x 1.3 mm, Pitch 0.95 mm; Supplier 1: Digi-Key; Supplier Part Number 1: SBAS40LT1G-ND; Supplier 2: Mouser; Supplier Part Number 2: 863-SBAS40LT1G; Packing: Tape and Reel; RoHS: TRUE; Mounting Technology: Surface Mount; ComponentLink1Description: Manufacturer URL; ComponentLink1URL: http://www.onsemi.com/; ComponentLink2Description: Datasheet; ComponentLink2URL: http://www.onsemi.cn/pub_link/Collateral/BAS40LT1-D.PDF; ComponentLink3Description: Package Specification; ComponentLink3URL: http://www.onsemi.cn/pub_link/Collateral/318-08.PDF
footprint ONSC-SOT-23-3-318-08_V (SOT23, 3-Leads, Body 2.92x1.3mm, Pitch 0.95mm)
pins: 1 A, 2 NC, 3 K

## SBAS40LT3G
designator D?
Schottky Barrier Diode, 3-Pin SOT-23, Pb-Free, Tape and Reel; Manufacturer: On Semiconductor; PartNumber: SBAS40LT3G; Note: 0; Configuration: Single; DatasheetVersion: Rev. 10; PackageVersion: Rev. AP, 11/2009; PackageReference: SOT-23-3-318-08; PackageDescription: 3-Pin Small Outline Transistor, Body 2.92 x 1.3 mm, Pitch 0.95 mm; Packing: Tape and Reel; RoHS: TRUE; Mounting Technology: Surface Mount; ComponentLink1Description: Manufacturer URL; ComponentLink1URL: http://www.onsemi.com/; ComponentLink2Description: Datasheet; ComponentLink2URL: http://www.onsemi.cn/pub_link/Collateral/BAS40LT1-D.PDF; ComponentLink3Description: Package Specification; ComponentLink3URL: http://www.onsemi.cn/pub_link/Collateral/318-08.PDF
footprint ONSC-SOT-23-3-318-08_V (SOT23, 3-Leads, Body 2.92x1.3mm, Pitch 0.95mm)
pins: 1 A, 2 NC, 3 K

## SBAS70-04LT1G
designator D?
Dual Series Schottky Barrier Diodes, 3-Pin SOT-23, Pb-Free, Tape and Reel; Manufacturer: On Semiconductor; PartNumber: SBAS70-04LT1G; Note: 0; IFSM Max (A): 0.1; DatasheetVersion: Rev. 10; PackageVersion: Rev. AP, 11/2009; PackageReference: SOT-23-3-318-08; PackageDescription: 3-Pin Small Outline Transistor, Body 2.92 x 1.3 mm, Pitch 0.95 mm; Configuration: Dual; Packing: Tape and Reel; RoHS: TRUE; Mounting Technology: Surface Mount; ComponentLink1Description: Manufacturer URL; ComponentLink1URL: http://www.onsemi.com/; ComponentLink2Description: Datasheet; ComponentLink2URL: http://www.onsemi.cn/pub_link/Collateral/BAS70-04LT1-D.PDF; ComponentLink3Description: Package Specification; ComponentLink3URL: http://www.onsemi.cn/pub_link/Collateral/318-08.PDF
footprint ONSC-SOT-23-3-318-08_V (SOT23, 3-Leads, Body 2.92x1.3mm, Pitch 0.95mm)
pins: 1 A, 2 K, 3 K/A

## SBAT54ALT1G
designator D?
Schottky Barrier Diodes, 3-Pin SOT-23, Pb-Free, Tape and Reel; Manufacturer: On Semiconductor; PartNumber: SBAT54ALT1G; Configuration: Common Anode; IFSM Max (A): 0.6; trr Max (ns): 5; DatasheetVersion: Rev. 12; PackageVersion: Rev. AP, 11/2009; PackageReference: SOT-23-3-318-08; PackageDescription: 3-Pin Small Outline Transistor, Body 2.92 x 1.3 mm, Pitch 0.95 mm; Supplier 1: Digi-Key; Supplier Part Number 1: SBAT54ALT1G-ND; Supplier 2: Mouser; Supplier Part Number 2: 863-SBAT54ALT1G; Packing: Tape and Reel; RoHS: TRUE; Mounting Technology: Surface Mount; ComponentLink1Description: Manufacturer URL; ComponentLink1URL: http://www.onsemi.com/; ComponentLink2Description: Datasheet; ComponentLink2URL: http://www.onsemi.cn/pub_link/Collateral/BAT54ALT1-D.PDF; ComponentLink3Description: Package Specification; ComponentLink3URL: http://www.onsemi.cn/pub_link/Collateral/318-08.PDF
footprint ONSC-SOT-23-3-318-08_V (SOT23, 3-Leads, Body 2.92x1.3mm, Pitch 0.95mm)
pins: 1 K1, 2 K2, 3 A

## SBAT54ALT3G
designator D?
Schottky Barrier Diodes, 3-Pin SOT-23, Pb-Free, Tape and Reel; Manufacturer: On Semiconductor; PartNumber: SBAT54ALT3G; Configuration: Common Anode; IFSM Max (A): 0.6; trr Max (ns): 5; DatasheetVersion: Rev. 12; PackageVersion: Rev. AP, 11/2009; PackageReference: SOT-23-3-318-08; PackageDescription: 3-Pin Small Outline Transistor, Body 2.92 x 1.3 mm, Pitch 0.95 mm; Supplier 1: Digi-Key; Supplier Part Number 1: SBAT54ALT3G-ND; Supplier 2: Mouser; Supplier Part Number 2: 863-SBAT54ALT3G; Packing: Tape and Reel; RoHS: TRUE; Mounting Technology: Surface Mount; ComponentLink1Description: Manufacturer URL; ComponentLink1URL: http://www.onsemi.com/; ComponentLink2Description: Datasheet; ComponentLink2URL: http://www.onsemi.cn/pub_link/Collateral/BAT54ALT1-D.PDF; ComponentLink3Description: Package Specification; ComponentLink3URL: http://www.onsemi.cn/pub_link/Collateral/318-08.PDF
footprint ONSC-SOT-23-3-318-08_V (SOT23, 3-Leads, Body 2.92x1.3mm, Pitch 0.95mm)
pins: 1 K1, 2 K2, 3 A

## SBAT54AWT1G
designator D?
Schottky Barrier Diodes, 3-Pin SOT-323, Pb-Free, Tape and Reel; Manufacturer: On Semiconductor; PartNumber: SBAT54AWT1G; Configuration: Common Anode; IFSM Max (A): 0.6; trr Max (ns): 5; DatasheetVersion: Rev. 3; PackageVersion: Rev. N, 11/2008; PackageReference: SOT-323-3-419-04; PackageDescription: 3-Pin Small Outline Transistor, Body 2 x 1.25 mm, Pitch 0.65 mm; Supplier 1: Digi-Key; Supplier Part Number 1: SBAT54AWT1G-ND; Supplier 2: Newark; Supplier Part Number 2: 76T7104; Supplier 3: Mouser; Supplier Part Number 3: 863-SBAT54AWT1G; Packing: Tape and Reel; RoHS: TRUE; Mounting Technology: Surface Mount; ComponentLink1Description: Manufacturer URL; ComponentLink1URL: http://www.onsemi.com/; ComponentLink2Description: Datasheet; ComponentLink2URL: http://www.onsemi.cn/pub_link/Collateral/BAT54AWT1-D.PDF; ComponentLink3Description: Package Specification; ComponentLink3URL: http://www.onsemi.com/pub_link/Collateral/419-04.PDF
footprint ONSC-SOT-323-3-419-04_V (SOT23, 3-Leads, Body 2x1.25mm, Pitch 0.65mm)
pins: 1 K1, 2 K2, 3 A

## SBAT54CLT1G
designator D?
Dual Common Cathode Schottky Barrier Diodes, 3-Pin SOT-23, Pb-Free, Tape and Reel; Manufacturer: On Semiconductor; PartNumber: SBAT54CLT1G; IFSM Max (A): 0.6; trr Max (ns): 5; DatasheetVersion: Rev. 8; PackageVersion: Rev. AP, 11/2009; PackageReference: SOT-23-3-318-08; PackageDescription: 3-Pin Small Outline Transistor, Body 2.92 x 1.3 mm, Pitch 0.95 mm; Supplier 1: Digi-Key; Supplier Part Number 1: SBAT54CLT1G-ND; Supplier 2: Newark; Supplier Part Number 2: 76T7105; Supplier 3: Mouser; Supplier Part Number 3: 863-SBAT54CLT1G; Configuration: Common Cathode; Packing: Tape and Reel; RoHS: TRUE; Mounting Technology: Surface Mount; ComponentLink1Description: Manufacturer URL; ComponentLink1URL: http://www.onsemi.com/; ComponentLink2Description: Datasheet; ComponentLink2URL: http://www.onsemi.cn/pub_link/Collateral/BAT54CLT1-D.PDF; ComponentLink3Description: Package Specification; ComponentLink3URL: http://www.onsemi.cn/pub_link/Collateral/318-08.PDF
footprint ONSC-SOT-23-3-318-08_V (SOT23, 3-Leads, Body 2.92x1.3mm, Pitch 0.95mm)
pins: 1 A1, 2 A2, 3 K

## SBAT54CTT1G
designator D?
Dual Series Cathode Schottky Barrier Diodes, 3-Pin SC-75, Pb-Free, Tape and Reel; Manufacturer: On Semiconductor; PartNumber: SBAT54CTT1G; Note: 0; Configuration: Common Cathode; IFSM Max (A): 0.6; trr Max (ns): 5; DatasheetVersion: Rev. 4; PackageVersion: Rev. F, 07/2005; PackageReference: SC-75-3-463-01; PackageDescription: 3-Pin Small Outline Transistor, Body 1.6 x 0.8 mm, Pitch 0.5 mm; Packing: Tape and Reel; RoHS: TRUE; Mounting Technology: Surface Mount; ComponentLink1Description: Manufacturer URL; ComponentLink1URL: http://www.onsemi.com/; ComponentLink2Description: Datasheet; ComponentLink2URL: http://www.onsemi.cn/pub_link/Collateral/BAT54CTT1-D.PDF; ComponentLink3Description: Package Specification; ComponentLink3URL: http://www.onsemi.com/pub_link/Collateral/463-01.PDF
footprint ONSC-SC-75-3-463-01_V (SOT23, 3-Leads, Body 1.6x0.8mm, Pitch 0.5mm)
pins: 1 A1, 2 A2, 3 K

## SBAT54CWT1G
designator D?
Dual Series Cathode Schottky Barrier Diodes, 3-Pin SOT-323, Pb-Free, Tape and Reel; Manufacturer: On Semiconductor; PartNumber: SBAT54CWT1G; Configuration: Common Cathode; IFSM Max (A): 0.6; trr Max (ns): 5; DatasheetVersion: Rev. 7; PackageVersion: Rev. N, 11/2008; PackageReference: SOT-323-3-419-04; PackageDescription: 3-Pin Small Outline Transistor, Body 2 x 1.25 mm, Pitch 0.65 mm; Supplier 1: Mouser; Supplier Part Number 1: 863-SBAT54CWT1G; Packing: Tape and Reel; RoHS: TRUE; Mounting Technology: Surface Mount; ComponentLink1Description: Manufacturer URL; ComponentLink1URL: http://www.onsemi.com/; ComponentLink2Description: Datasheet; ComponentLink2URL: http://www.onsemi.cn/pub_link/Collateral/BAT54CWT1-D.PDF; ComponentLink3Description: Package Specification; ComponentLink3URL: http://www.onsemi.com/pub_link/Collateral/419-04.PDF
footprint ONSC-SOT-323-3-419-04_V (SOT23, 3-Leads, Body 2x1.25mm, Pitch 0.65mm)
pins: 1 A1, 2 A2, 3 K

## SBAT54SLT1G
designator D?
Dual Series Schottky Barrier Diodes, 3-Pin SOT-23, Pb-Free, Tape and Reel; Manufacturer: On Semiconductor; PartNumber: SBAT54SLT1G; trr Max (ns): 5; DatasheetVersion: Rev. 15; PackageVersion: Rev. AP, 11/2009; PackageReference: SOT-23-3-318-08; PackageDescription: 3-Pin Small Outline Transistor, Body 2.92 x 1.3 mm, Pitch 0.95 mm; Supplier 1: Newark; Supplier Part Number 1: 76T7107; Supplier 2: Mouser; Supplier Part Number 2: 863-SBAT54SLT1G; Configuration: Dual; Packing: Tape and Reel; RoHS: TRUE; Mounting Technology: Surface Mount; ComponentLink1Description: Manufacturer URL; ComponentLink1URL: http://www.onsemi.com/; ComponentLink2Description: Datasheet; ComponentLink2URL: http://www.onsemi.cn/pub_link/Collateral/BAT54SLT1-D.PDF; ComponentLink3Description: Package Specification; ComponentLink3URL: http://www.onsemi.cn/pub_link/Collateral/318-08.PDF
footprint ONSC-SOT-23-3-318-08_V (SOT23, 3-Leads, Body 2.92x1.3mm, Pitch 0.95mm)
pins: 1 A, 2 K, 3 K/A

## SBAT54XV2T1G
designator D?
Schottky Barrier Diode, 2-Pin SOD-523, Pb-Free, Tape and Reel; Manufacturer: On Semiconductor; PartNumber: SBAT54XV2T1G; Configuration: Single; IFSM Max (A): 0.6; trr Max (ns): 5; DatasheetVersion: Rev. 8; PackageVersion: Rev. E, 09/2010; PackageReference: SOD-523-2-502-01; PackageDescription: 2-Pin SOD, Body 1.2 x 0.8 mm; Supplier 1: Newark; Supplier Part Number 1: 45W3814; Supplier 2: Mouser; Supplier Part Number 2: 863-SBAT54XV2T1G; Packing: Tape and Reel; RoHS: TRUE; Mounting Technology: Surface Mount; ComponentLink1Description: Manufacturer URL; ComponentLink1URL: http://www.onsemi.com/; ComponentLink2Description: Datasheet; ComponentLink2URL: http://www.onsemi.cn/pub_link/Collateral/BAT54XV2T1-D.PDF; ComponentLink3Description: Package Specification; ComponentLink3URL: http://www.onsemi.com/pub_link/Collateral/502-01.PDF
footprint ONSC-SOD-523-2-502-01_V (SOD, 2-Leads, Body 1.2x0.8mm)
pins: 1 K, 2 A

## SBE001-TL-E
designator D?
Schottky Barrier Diode, 30 V, 2 A, Low IR, Single, 6-Pin CPH, Pb-Free, Tape and Reel; Manufacturer: On Semiconductor; PartNumber: SBE001-TL-E; IFSM Max (A): 20; PackageReference: CPH-6; PackageDescription: 6-Pin Small Outline Transistor, Body 2.9 x 1.6 mm, Pitch 0.95 mm; Supplier 1: Digi-Key; Supplier Part Number 1: SBE001-TL-E-ND; Supplier 2: Mouser; Supplier Part Number 2: 863-SBE001-TL-E; Configuration: Single; Packing: Tape and Reel; RoHS: TRUE; trr Max (ns): 20; Mounting Technology: Surface Mount; ComponentLink1Description: Manufacturer URL; ComponentLink1URL: http://www.onsemi.com/; ComponentLink2Description: Datasheet; ComponentLink2URL: http://www.onsemi.cn/pub_link/Collateral/EN6292-D.PDF; ComponentLink3Description: Package Specification; ComponentLink3URL: http://www.onsemi.com/pub_link/Collateral/CPH6001A-D.PDF
footprint ONSC-CPH-6_V (SOT23, 6-Leads, Body 2.9x1.6mm, Pitch 0.95mm)
pins: 1 K, 2 K, 3 NC, 4 A, 5 K, 6 K
text: 1, 2, 5, 6

## SBE002-TL-E
designator D?
Schottky Barrier Diode, 50 V, 1 A, Low IR, Single, 6-Pin CPH, Pb-Free, Tape and Reel; Manufacturer: On Semiconductor; PartNumber: SBE002-TL-E; IFSM Max (A): 10; PackageReference: CPH-6; PackageDescription: 6-Pin Small Outline Transistor, Body 2.9 x 1.6 mm, Pitch 0.95 mm; Supplier 1: Digi-Key; Supplier Part Number 1: SBE002-TL-E-ND; Supplier 2: Newark; Supplier Part Number 2: 65T1570; Supplier 3: Mouser; Supplier Part Number 3: 863-SBE002-TL-E; Configuration: Single; Packing: Tape and Reel; RoHS: TRUE; trr Max (ns): 10; Mounting Technology: Surface Mount; ComponentLink1Description: Manufacturer URL; ComponentLink1URL: http://www.onsemi.com/; ComponentLink2Description: Datasheet; ComponentLink2URL: http://www.onsemi.cn/pub_link/Collateral/EN6343-D.PDF; ComponentLink3Description: Package Specification; ComponentLink3URL: http://www.onsemi.com/pub_link/Collateral/CPH6001A-D.PDF
footprint ONSC-CPH-6_V (SOT23, 6-Leads, Body 2.9x1.6mm, Pitch 0.95mm)
pins: 1 K, 2 K, 3 NC, 4 A, 5 K, 6 K
text: 1, 2, 5, 6

## SBE805-TL-E
designator D?
Schottky Barrier Diodes, 30 V, 0.5 A, Low IR, Dual, 5-Pin CPH, Pb-Free, Tape and Reel; Manufacturer: On Semiconductor; PartNumber: SBE805-TL-E; IFSM Max (A): 5; trr Max (ns): 10; PackageReference: CPH-5-318BC; PackageDescription: 5-Pin Small Outline Transistor, Body 2.9 x 1.6 mm, Pitch 0.95 mm; Supplier 1: Digi-Key; Supplier Part Number 1: 869-1186-2-ND; Supplier 2: Digi-Key; Supplier Part Number 2: 869-1186-1-ND; Supplier 3: Digi-Key; Supplier Part Number 3: 869-1186-6-ND; Supplier 4: Mouser; Supplier Part Number 4: 863-SBE805-TL-E; Configuration: Dual; Packing: Tape and Reel; RoHS: TRUE; Mounting Technology: Surface Mount; ComponentLink1Description: Manufacturer URL; ComponentLink1URL: http://www.onsemi.com/; ComponentLink2Description: Datasheet; ComponentLink2URL: http://www.onsemi.cn/pub_link/Collateral/EN7291-D.PDF; ComponentLink3Description: Package Specification; ComponentLink3URL: http://www.onsemi.com/pub_link/Collateral/CPH5512-D.PDF
footprint ONSC-CPH-5-318BC_V (SOT23, 5-Leads, Body 2.9x1.6mm, Pitch 0.95mm)
pins: 1 K, 2 K, 3 A, 4 NC, 5 A

## SBE807-TL-E
designator D?
Schottky Barrier Diodes, 30 V, 1 A, Low IR, Dual, 5-Pin CPH, Pb-Free, Tape and Reel; Manufacturer: On Semiconductor; PartNumber: SBE807-TL-E; IFSM Max (A): 10; PackageReference: CPH-5; PackageDescription: 5-Pin Small Outline Transistor, Body 2.9 x 1.6 mm, Pitch 0.95 mm; Supplier 1: Digi-Key; Supplier Part Number 1: 869-1188-2-ND; Supplier 2: Digi-Key; Supplier Part Number 2: 869-1188-1-ND; Supplier 3: Digi-Key; Supplier Part Number 3: 869-1188-6-ND; Supplier 4: Mouser; Supplier Part Number 4: 863-SBE807-TL-E; Configuration: Dual; Packing: Tape and Reel; RoHS: TRUE; trr Max (ns): 10; Mounting Technology: Surface Mount; ComponentLink1Description: Manufacturer URL; ComponentLink1URL: http://www.onsemi.com/; ComponentLink2Description: Datasheet; ComponentLink2URL: http://www.onsemi.cn/pub_link/Collateral/ENA1055-D.PDF; ComponentLink3Description: Package Specification; ComponentLink3URL: http://www.onsemi.com/pub_link/Collateral/CPH5504-D.PDF
footprint ONSC-CPH-5_V (SOT23, 5-Leads, Body 2.9x1.6mm, Pitch 0.95mm)
pins: 1 K, 2 K, 3 A, 4 NC, 5 A

## SBE808-TL-E
designator D?
Schottky Barrier Diodes, 15 V, 1 A, Low IR, Non-Monolithic Dual Common Cathode, 5-Pin MCPH, Pb-Free, Tape and Reel; Manufacturer: On Semiconductor; PartNumber: SBE808-TL-E; IFSM Max (A): 10; PackageReference: MCPH-5; PackageDescription: 5-Pin Small Outline Transistor, Body 2 x 1.6 mm, Pitch 0.65 mm; Supplier 1: Digi-Key; Supplier Part Number 1: SBE808-TL-E-ND; Supplier 2: Mouser; Supplier Part Number 2: 863-SBE808-TL-E; Configuration: Dual; Packing: Tape and Reel; RoHS: TRUE; trr Max (ns): 10; Mounting Technology: Surface Mount; ComponentLink1Description: Manufacturer URL; ComponentLink1URL: http://www.onsemi.com/; ComponentLink2Description: Datasheet; ComponentLink2URL: http://www.onsemi.cn/pub_link/Collateral/ENA0451-D.PDF; ComponentLink3Description: Package Specification; ComponentLink3URL: http://www.onsemi.com/pub_link/Collateral/ENA1218-D.PDF
footprint ONSC-MCPH-5_V (SOT23, 5-Leads, Body 2x1.6mm, Pitch 0.65mm)
pins: 1 A, 2 NC, 3 A, 4 K, 5 K